# EAGLE library part IAUTN15S6N025ATMA1 (library IAUTN15S6N025ATMA1)
MOSFETs 150 V, N-Ch, 2.5 mOhms max, Automotive MOSFET, TOLL (10x12) Source: Datasheet <https://www.mouser.co.uk/datasheet/3/70/1/Infineon_IAUTN15S6N025_DataSheet_v01_00_EN.pdf>
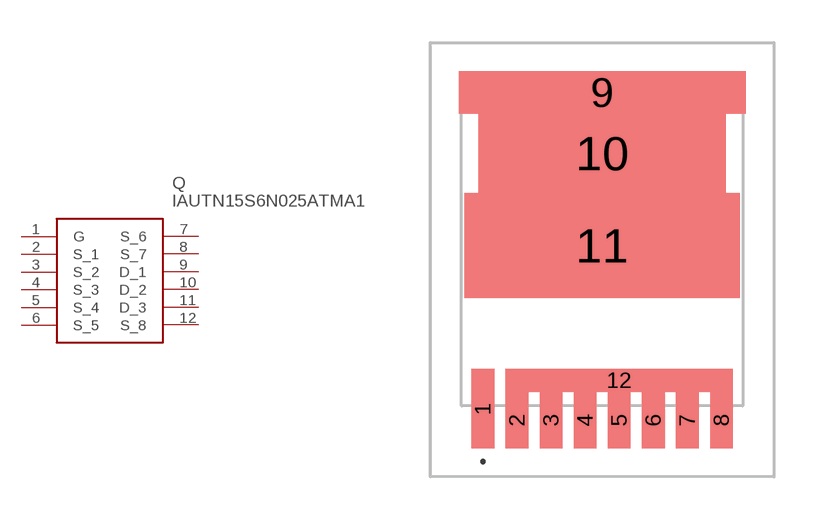
[diagram p0: symbol with the pads of BTH500151LUAAUMA1; footprint BTH500151LUAAUMA1]

Designator prefix Q

## IAUTN15S6N025ATMA1 (Description: MOSFETs 150 V, N-Ch, 2.5 mOhms max, Automotive MOSFET, TOLL (10x12); Height: 2.4mm; Manufacturer_Name: Infineon; Manufacturer_Part_Number: IAUTN15S6N025ATMA1)  [BTH500151LUAAUMA1]
1  G
2  S_1
3  S_2
4  S_3
5  S_4
6  S_5
7  S_6
8  S_7
9  D_1
10  D_2
11  D_3
12  S_8

## Footprint BTH500151LUAAUMA1 (pad centres in mm)
P/G-HSOF-8-1
smd 0.8 x 2.8: 1 -4.2,-5.25
smd 0.8 x 2: 2 -3,-5.65; 3 -1.8,-5.65; 4 -0.6,-5.65; 5 0.6,-5.65; 6 1.8,-5.65; 7 3,-5.65; 8 4.2,-5.65
smd 10.1 x 1.5: 9 0,5.9
smd 8.7 x 2.8: 10 0,3.75
smd 9.7 x 3.7: 11 0,0.5
smd 8 x 0.8: 12 0.6,-4.25